# Altium footprint library CR0402-FX-1002GLF.PcbLib: 3 footprints
Each footprint in its own frame and in the unit in brackets; x right, y up, seen from the top. Pads: shape width x height; smd on the part's side, far side on the other; paste and mask are expansions set on the pad; w line width, h text height; cw(c..) or ccw(c..) is an arc to the next point about the centre after c.
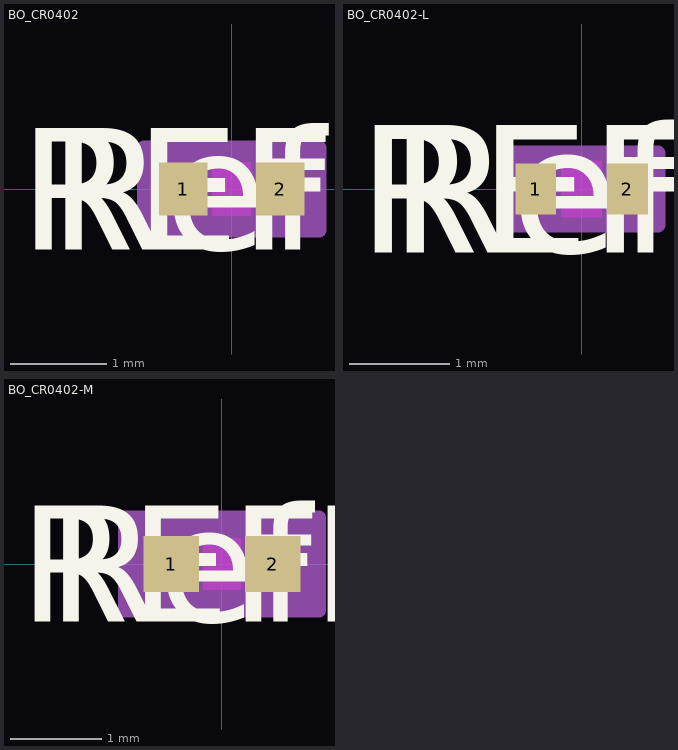
[diagram p0: the footprints below, top view; thin cyan lines are the x and y axes]

## BO_CR0402 [mil]
pads (2):
  rect 19.87x22 smd paste+0 mask+0: 1(-19.94,0) 2(19.94,0)
Top Layer keep-out:
  region: -8,-9 -8,9 8,9 8,-9
Top Overlay:
  text "REFDES" at -87.5,-25 h50
  text "RefDes" at -75,-25 h50
Keep-Out Layer:
  region: -8,-11 -8,11 8,11 8,-11
Mechanical 13:
  lines w1: -22,-11 -22,11 ; -22,-11 -10,-11 -10,11 -22,11 ; -22,-11 22,-11 ; -22,-11 -22,11 ; -22,11 22,11 ; 22,-11 10,-11 10,11 22,11 ; 22,-11 22,11 ; 22,-11 22,11
  text "RefDes2" at -87.5,-25 h50
Mechanical 15:
  region: 35.87,-17 -35.87,-17 -35.87,17 35.87,17
  lines w6: -35.87,-17 -35.87,17 35.87,17 35.87,-17 -35.87,-17
3D body "BO_CR0402.step": height 15.98, standoff 0, extent -22.01,-10.98 22.01,10.98

## BO_CR0402-L [mil]
pads (2):
  rect 15.94x20.03 smd paste+0 mask+0: 1(-17.97,0) 2(17.97,0)
Top Layer keep-out:
  region: -8,-9 -8,9 8,9 8,-9
Top Overlay:
  text "REFDES" at -87.5,-25 h50
  text "RefDes" at -75,-25 h50
Keep-Out Layer:
  region: -8,-11 -8,11 8,11 8,-11
Mechanical 13:
  lines w1: -22,-11 -22,11 ; -22,-11 -10,-11 -10,11 -22,11 ; -22,-11 22,-11 ; -22,-11 -22,11 ; -22,11 22,11 ; 22,-11 10,-11 10,11 22,11 ; 22,-11 22,11 ; 22,-11 22,11
  text "RefDes2" at -87.5,-25 h50
Mechanical 15:
  region: 29.94,-14.02 -29.94,-14.02 -29.94,14.02 29.94,14.02
  lines w6: -29.94,-14.02 -29.94,14.02 29.94,14.02 29.94,-14.02 -29.94,-14.02
3D body "BO_CR0402.step": height 15.98, standoff 0, extent -22.01,-10.98 22.01,10.98

## BO_CR0402-M [mil]
pads (2):
  rect 23.81x23.97 smd paste+0 mask+0: 1(-21.91,0) 2(21.91,0)
Top Layer keep-out:
  region: -8,-9 -8,9 8,9 8,-9
Top Overlay:
  text "REFDES" at -87.5,-25 h50
  text "RefDes" at -75,-25 h50
Keep-Out Layer:
  region: -8,-11 -8,11 8,11 8,-11
Mechanical 13:
  lines w1: -22,-11 -22,11 ; -22,-11 -10,-11 -10,11 -22,11 ; -22,-11 22,-11 ; -22,-11 -22,11 ; -22,11 22,11 ; 22,-11 10,-11 10,11 22,11 ; 22,-11 22,11 ; 22,-11 22,11
  text "RefDes2" at -87.5,-25 h50
Mechanical 15:
  region: 41.81,-19.98 -41.81,-19.98 -41.81,19.98 41.81,19.98
  lines w6: -41.81,-19.98 -41.81,19.98 41.81,19.98 41.81,-19.98 -41.81,-19.98
3D body "BO_CR0402.step": height 15.98, standoff 0, extent -22.01,-10.98 22.01,10.98